# Altium schematic symbol library Dorji.SchLib: 1 symbol
Pins are listed as number, name and electrical type; pins without a type are passive.

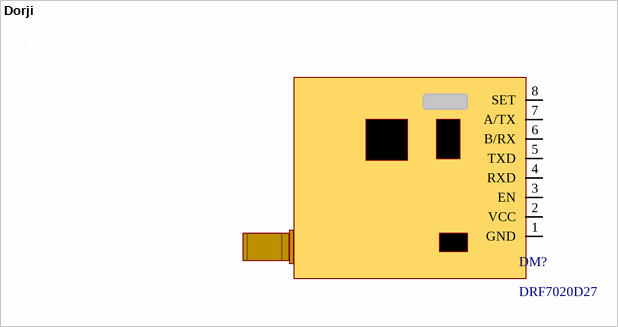
[diagram p0: symbol Dorji]

## Dorji
designator DM?, comment DRF7020D27
footprint PCBComponent_1
pins: 1 GND, 2 VCC, 3 EN, 4 RXD, 5 TXD, 6 B/RX, 7 A/TX, 8 SET